# EAGLE library part LPC1313FBD48 (library lpc1xxx-v6)
LPC1313 72 MHz 32-bit ARM Cortex-M3 based microcontroller featuring a high level of integration and low power consumption. 32 kB Flash, 8 kB SRAM MarcVl - Datasheet available on www.nxp.com
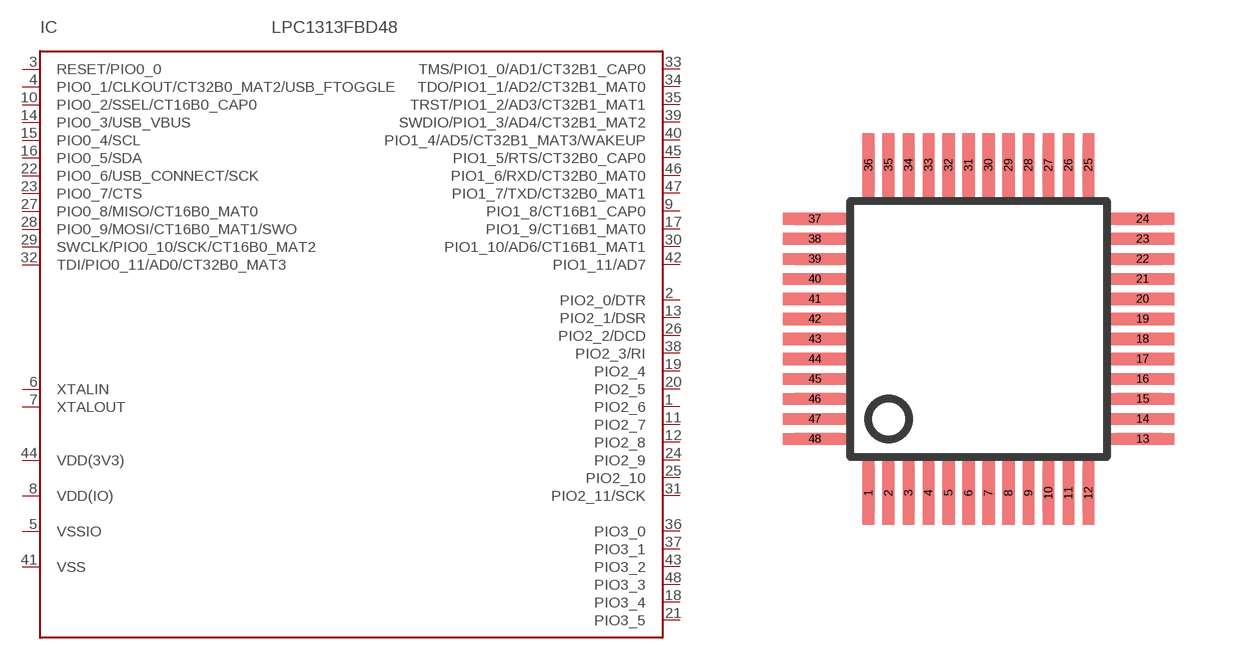
[diagram p9: symbol with the pads of LQFP48-7X7; footprint LQFP48-7X7]

Designator prefix IC

## LPC1313FBD48  [LQFP48-7X7]
1  PIO2_6
2  PIO2_0/DTR
3  RESET/PIO0_0
4  PIO0_1/CLKOUT/CT32B0_MAT2/USB_FTOGGLE
5  VSSIO  pwr
6  XTALIN  in
7  XTALOUT  out
8  VDD(IO)  pwr
9  PIO1_8/CT16B1_CAP0
10  PIO0_2/SSEL/CT16B0_CAP0
11  PIO2_7
12  PIO2_8
13  PIO2_1/DSR
14  PIO0_3/USB_VBUS
15  PIO0_4/SCL
16  PIO0_5/SDA
17  PIO1_9/CT16B1_MAT0
18  PIO3_4
19  PIO2_4
20  PIO2_5
21  PIO3_5
22  PIO0_6/USB_CONNECT/SCK
23  PIO0_7/CTS
24  PIO2_9
25  PIO2_10
26  PIO2_2/DCD
27  PIO0_8/MISO/CT16B0_MAT0
28  PIO0_9/MOSI/CT16B0_MAT1/SWO
29  SWCLK/PIO0_10/SCK/CT16B0_MAT2
30  PIO1_10/AD6/CT16B1_MAT1
31  PIO2_11/SCK
32  TDI/PIO0_11/AD0/CT32B0_MAT3
33  TMS/PIO1_0/AD1/CT32B1_CAP0
34  TDO/PIO1_1/AD2/CT32B1_MAT0
35  TRST/PIO1_2/AD3/CT32B1_MAT1
36  PIO3_0
37  PIO3_1
38  PIO2_3/RI
39  SWDIO/PIO1_3/AD4/CT32B1_MAT2
40  PIO1_4/AD5/CT32B1_MAT3/WAKEUP
41  VSS  pwr
42  PIO1_11/AD7
43  PIO3_2
44  VDD(3V3)  pwr
45  PIO1_5/RTS/CT32B0_CAP0
46  PIO1_6/RXD/CT32B0_MAT0
47  PIO1_7/TXD/CT32B0_MAT1
48  PIO3_3

## Footprint LQFP48-7X7 (pad centres in mm)
LQFP48 Low profile Quad Flat Package 7x7x1.4
smd 0.3 x 1.6: 1 -2.75,-4.1; 2 -2.25,-4.1; 3 -1.75,-4.1; 4 -1.25,-4.1; 5 -0.75,-4.1; 6 -0.25,-4.1; 7 0.25,-4.1; 8 0.75,-4.1; 9 1.25,-4.1; 10 1.75,-4.1; 11 2.25,-4.1; 12 2.75,-4.1; 25 2.75,4.1; 26 2.25,4.1; 27 1.75,4.1; 28 1.25,4.1; 29 0.75,4.1; 30 0.25,4.1; 31 -0.25,4.1; 32 -0.75,4.1; 33 -1.25,4.1; 34 -1.75,4.1; 35 -2.25,4.1; 36 -2.75,4.1
smd 1.6 x 0.3: 13 4.1,-2.75; 14 4.1,-2.25; 15 4.1,-1.75; 16 4.1,-1.25; 17 4.1,-0.75; 18 4.1,-0.25; 19 4.1,0.25; 20 4.1,0.75; 21 4.1,1.25; 22 4.1,1.75; 23 4.1,2.25; 24 4.1,2.75; 37 -4.1,2.75; 38 -4.1,2.25; 39 -4.1,1.75; 40 -4.1,1.25; 41 -4.1,0.75; 42 -4.1,0.25; 43 -4.1,-0.25; 44 -4.1,-0.75; 45 -4.1,-1.25; 46 -4.1,-1.75; 47 -4.1,-2.25; 48 -4.1,-2.75